# EAGLE library part RPI-PICO (library picoRS485Gateway)
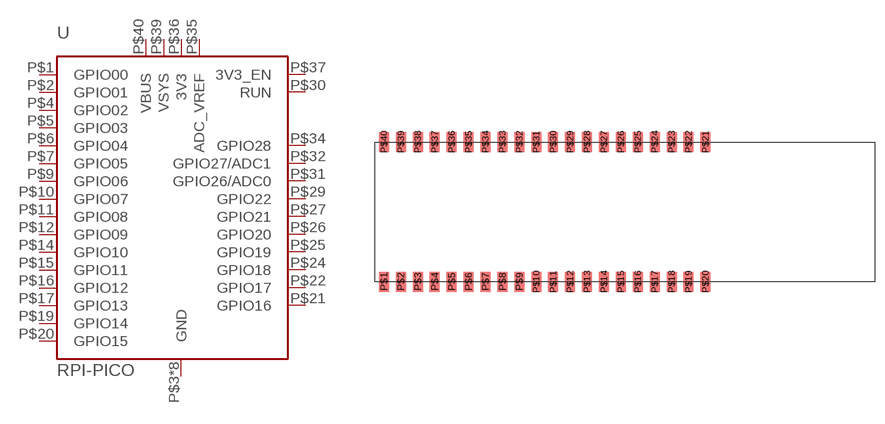
[diagram p0: symbol with the pads of W5100S-EVB-PICO; footprint W5100S-EVB-PICO]

Designator prefix -

## RPI-PICO  [W5100S-EVB-PICO]
P$1  GPIO00
P$2  GPIO01
P$3  GND
P$4  GPIO02
P$5  GPIO03
P$6  GPIO04
P$7  GPIO05
P$8  GND
P$9  GPIO06
P$10  GPIO07
P$11  GPIO08
P$12  GPIO09
P$13  GND
P$14  GPIO10
P$15  GPIO11
P$16  GPIO12
P$17  GPIO13
P$18  GND
P$19  GPIO14
P$20  GPIO15
P$21  GPIO16
P$22  GPIO17
P$23  GND
P$24  GPIO18
P$25  GPIO19
P$26  GPIO20
P$27  GPIO21
P$28  GND
P$29  GPIO22
P$30  RUN
P$31  GPIO26/ADC0
P$32  GPIO27/ADC1
P$33  GND
P$34  GPIO28
P$35  ADC_VREF
P$36  3V3
P$37  3V3_EN
P$38  GND
P$39  VSYS
P$40  VBUS

## Footprint W5100S-EVB-PICO (pad centres in mm)
smd 1.5 x 3: P$1 0,0; P$2 2.54,0; P$3 5.08,0; P$4 7.62,0; P$5 10.16,0; P$6 12.7,0; P$7 15.24,0; P$8 17.78,0; P$9 20.32,0; P$10 22.86,0; P$11 25.4,0; P$12 27.94,0; P$13 30.48,0; P$14 33.02,0; P$15 35.56,0; P$16 38.1,0; P$17 40.64,0; P$18 43.18,0; P$19 45.72,0; P$20 48.26,0; P$21 48.26,21; P$22 45.72,21; P$23 43.18,21; P$24 40.64,21; P$25 38.1,21; P$26 35.56,21; P$27 33.02,21; P$28 30.48,21; P$29 27.94,21; P$30 25.4,21; P$31 22.86,21; P$32 20.32,21; P$33 17.78,21; P$34 15.24,21; P$35 12.7,21; P$36 10.16,21; P$37 7.62,21; P$38 5.08,21; P$39 2.54,21; P$40 0,21